# Altium schematic symbol library GBJ2506.SchLib: 1 symbol
Pins are listed as number, name and electrical type; pins without a type are passive.

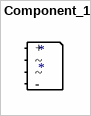
[diagram p0: symbol Component_1]

## Component_1
designator *
footprint GBJ2506
pins: 1 +, 2 ~, 3 ~, 4 -